# Altium integrated library PS1240P02CT3.IntLib: 1 symbol
Pins are listed as number, name and electrical type; pins without a type are passive.

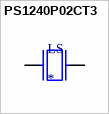
[diagram p0: symbol PS1240P02CT3]

## PS1240P02CT3
designator LS
Buzzers Transducer, Externally Driven Piezo 3V 4kHz 60dB @ 3V, 10cm Through Hole PC Pins; MF: TDK; MP: PS1240P02CT3; SnapEDA_Link: https://www.snapeda.com/parts/PS1240P02CT3/TDK/view-part/293543/?ref=snap; Price: None; Package: SIP-5 TDK; Value: *; Availability: Unavailable
footprint XDCR_PS1240P02CT3
pins: 1, 2